# EAGLE library part ADG3308 (library lib_stankus)
Analog Devices ADG3308 level shifter Farnell #9453083
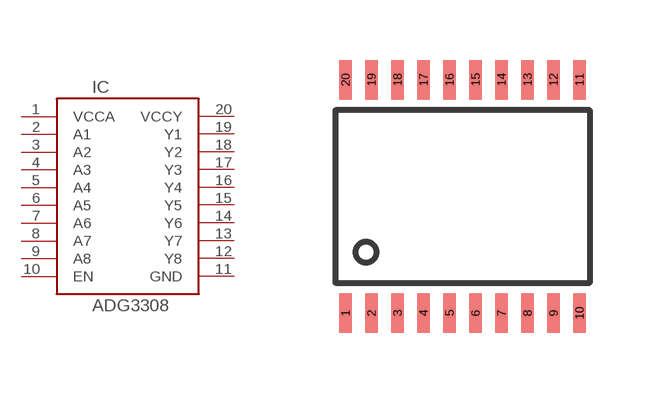
[diagram p47: symbol with the pads of TSSOP20; footprint TSSOP20]

Designator prefix IC

## ADG3308-TSSOP20  [TSSOP20]
1  VCCA  pas
2  A1  pas
3  A2  pas
4  A3  pas
5  A4  pas
6  A5  pas
7  A6  pas
8  A7  pas
9  A8  pas
10  EN  pas
11  GND  pas
12  Y8  pas
13  Y7  pas
14  Y6  pas
15  Y5  pas
16  Y4  pas
17  Y3  pas
18  Y2  pas
19  Y1  pas
20  VCCY  pas

## Footprint TSSOP20 (pad centres in mm)
TSSOP20
smd 0.305 x 0.991: 1 -2.925,-2.921; 2 -2.275,-2.921; 3 -1.625,-2.921; 4 -0.975,-2.921; 5 -0.325,-2.921; 6 0.325,-2.921; 7 0.975,-2.921; 8 1.625,-2.921; 9 2.275,-2.921; 10 2.925,-2.921; 11 2.925,2.921; 12 2.275,2.921; 13 1.625,2.921; 14 0.975,2.921; 15 0.325,2.921; 16 -0.325,2.921; 17 -0.975,2.921; 18 -1.625,2.921; 19 -2.275,2.921; 20 -2.925,2.921